# Altium schematic symbol library BNX005-01.SchLib: 1 symbol
Pins are listed as number, name and electrical type; pins without a type are passive.

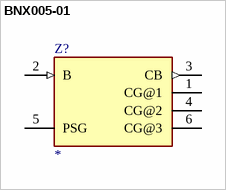
[diagram p0: symbol BNX005-01]

## BNX005-01
designator Z?
LC EMI Filter 5th Order Low Pass 2 Channel 15A Block, 4 Lead; MP: BNX005-01; MF: Murata; Package: Block-4 Murata; Value: *; Price: None; SnapEDA_Link: https://www.snapeda.com/parts/BNX005-01/Murata%20Electronics%20North%20America/view-part/216330/?ref=snap; Availability: Unavailable
footprint BNX005-01
pins: 1 CG@1 (power), 2 B (in), 3 CB (out), 4 CG@2 (power), 5 PSG (power), 6 CG@3 (power)